# EAGLE library part ST1S10PHR (library ds_ic_vreg)
3 A, 900 kHz, monolithic synchronous step-down regulator IC
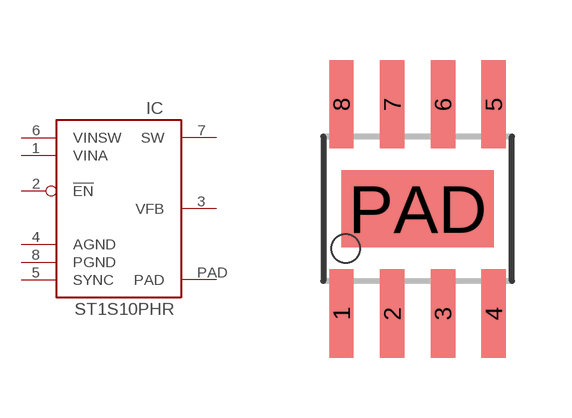
[diagram p4: symbol with the pads of SO8P; footprint SO8P]

Designator prefix IC

## ST1S10PHR  [SO8P]
1  VINA  pwr
2  !EN
3  VFB
4  AGND  pwr
5  SYNC
6  VINSW  pwr
7  SW
8  PGND  pwr
PAD  PAD  pwr

## Footprint SO8P (pad centres in mm)
smd 0.61 x 2.21: 1 -1.905,-2.616; 2 -0.635,-2.616; 3 0.635,-2.616; 4 1.905,-2.616; 5 1.905,2.616; 6 0.635,2.616; 7 -0.635,2.616; 8 -1.905,2.616
smd 3.81 x 1.93: PAD 0,0